# Altium footprint library 温控PCB_0617F1.PcbLib: 22 footprints (part 2 of 2)
Each footprint in its own frame and in the unit in brackets; x right, y up, seen from the top. Pads: shape width x height; smd on the part's side, far side on the other; paste and mask are expansions set on the pad; w line width, h text height; cw(c..) or ccw(c..) is an arc to the next point about the centre after c.
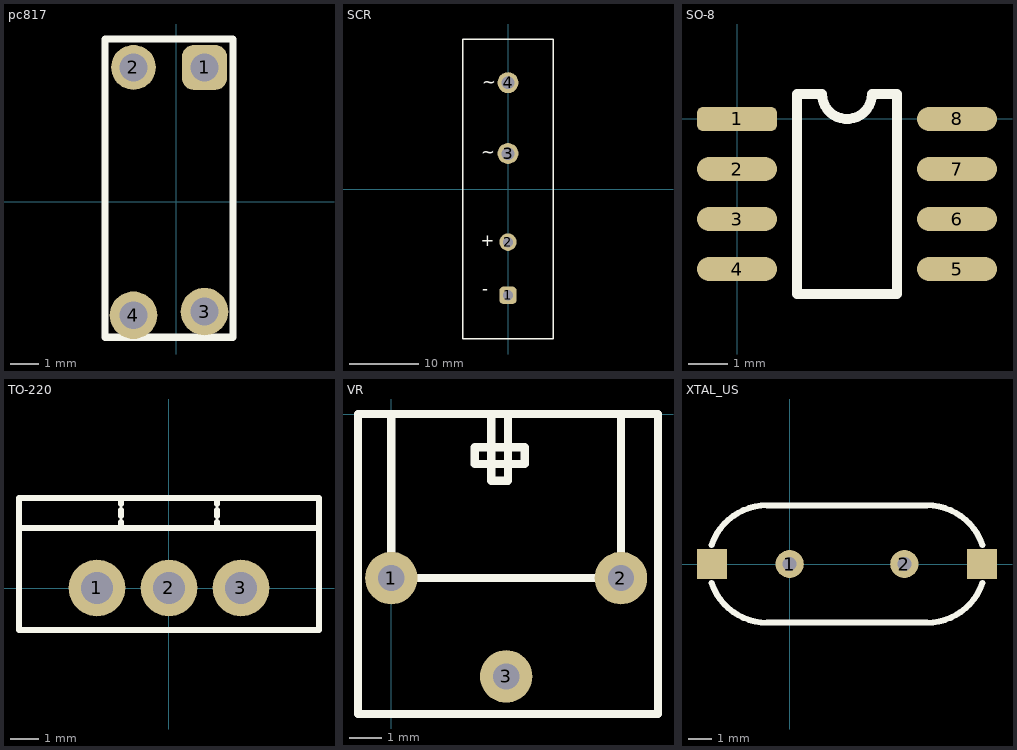
[diagram p1: the footprints below, top view; thin cyan lines are the x and y axes]

## pc817 [mm]
pads (4):
  rrect50% 1.6x1.6 hole 1: 1(1.016,4.801)
  round 1.6 hole 1: 2(-1.524,4.801)
  round 1.7 hole 1: 3(1.016,-3.937) 4(-1.524,-4.064)
Top Overlay:
  lines w0.254: 1.016,-4.724 1.143,-4.851 ; -2.54,-4.851 -2.54,5.817 2.032,5.817 2.032,-4.851 -2.54,-4.851

## SCR [mm]
pads (4):
  rrect50% 2.5x2.5 hole 1.5 paste+0: 1(0,-15.24)
  round 2.5 hole 1.5: 2(0,-7.62)
  round 3 hole 1.8: 3(0,5.08) 4(0,15.24)
Top Overlay:
  lines w0.2: -6.5,-21.5 6.5,-21.5 6.5,21.5 -6.477,21.5 -6.477,-21.5
  text "~" at -3.81,3.937 h3
  text "~" at -3.683,13.97 h3
  text "-" at -3.683,-15.748 h3
  text "+" at -3.937,-8.763 h3

## SO-8 [mil]
pads (8):
  rrect50% 80x24 smd: 1(0,0)
  oval 80x24 smd: 2(0,-50) 3(0,-100) 4(0,-150) 5(220,-150) 6(220,-100) 7(220,-50) 8(220,0)
Top Overlay:
  lines w10: 60,-175 60,25 85,25 ccw(c110,25) 135,25 160,25 160,-175 60,-175

## TO-220 [mm]
pads (3):
  round 2 hole 1.143: 1(-2.54,0) 2(0,0) 3(2.54,0)
Top Overlay:
  lines w0.2: -1.693,2.117 -1.693,2.328 ; -1.693,2.54 -1.693,2.752 ; -1.693,2.963 -1.693,3.175 ; 1.693,2.117 1.693,2.328 ; 1.693,2.54 1.693,2.752 ; 1.693,2.963 1.693,3.175 ; -5.292,2.117 5.292,2.117 ; -5.292,2.117 -5.292,-1.482 5.292,-1.482 5.292,2.117 ; -5.292,2.117 -5.292,3.175 5.292,3.175 5.292,2.117

## VR [mm]
pads (3):
  round 1.6 hole 0.8: 1(0,-5) 2(7,-5) 3(3.5,-8)
Top Overlay:
  lines w0.254: 3.048,0 3.048,-2.032 3.556,-2.032 3.556,0 ; 0,0 7,0 ; 0,0 0,-5 7,-5 7,0 ; 0,0 -1.016,0 -1.016,-9.144 8.128,-9.144 8.128,-7.62 8.128,0 7,0 ; 2.54,-1.524 4.064,-1.524 4.064,-1.016 2.54,-1.016 2.54,-1.524

## XTAL_US [mm]
pads (4):
  round 1.2 hole 0.6: 1(0,0) 2(4.88,0)
  rect 1.27x1.27 smd: ""(-3.31,0) ""(8.19,0)
Top Overlay:
  lines w0.254: -3.325,-0.809 ccw(c-0.96,0) -0.96,-2.5 ; -3.325,0.809 cw(c-0.96,0) -0.96,2.5 ; -0.965,2.5 5.84,2.5 cw(c5.84,0) 8.205,0.809 ; -0.96,-2.5 5.84,-2.5 ccw(c5.84,0) 8.205,-0.809